# EAGLE library part QTE-040 (library con-samtec)
0,8mm HI-SPEED HEADER QTE Series Source: http://www.samtec.com/ftppub/pdf/QTE.PDF http://www.samtec.com/ftppub/cpdf/QTE-XXX-XX-X-D-XXX-FOOTPRINT.pdf
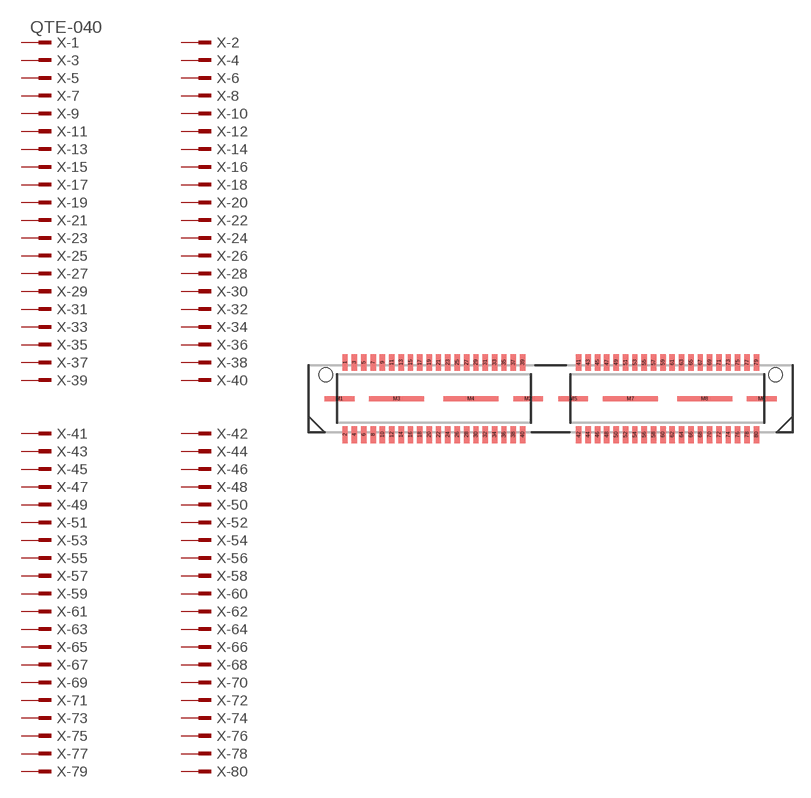
[diagram p1: symbol with the pads of QTE-040; footprint QTE-040]

Designator prefix X; gates -1=MPINV -2=MPIN -3=MPIN -4=MPIN -5=MPIN -6=MPIN -7=MPIN -8=MPIN -9=MPIN -10=MPIN -11=MPIN -12=MPIN -13=MPIN -14=MPIN -15=MPIN -16=MPIN -17=MPIN -18=MPIN -19=MPIN -20=MPIN -21=MPIN -22=MPIN -23=MPIN -24=MPIN -25=MPIN -26=MPIN -27=MPIN -28=MPIN -29=MPIN -30=MPIN -31=MPIN -32=MPIN -33=MPIN -34=MPIN -35=MPIN -36=MPIN -37=MPIN -38=MPIN -39=MPIN -40=MPIN -41=MPIN -42=MPIN -43=MPIN -44=MPIN -45=MPIN -46=MPIN -47=MPIN -48=MPIN -49=MPIN -50=MPIN -51=MPIN -52=MPIN -53=MPIN -54=MPIN -55=MPIN -56=MPIN -57=MPIN -58=MPIN -59=MPIN -60=MPIN -61=MPIN -62=MPIN -63=MPIN -64=MPIN -65=MPIN -66=MPIN -67=MPIN -68=MPIN -69=MPIN -70=MPIN -71=MPIN -72=MPIN -73=MPIN -74=MPIN -75=MPIN -76=MPIN -77=MPIN -78=MPIN -79=MPIN -80=MPIN

## QTE-040  [QTE-040]
1  -1:1  pas
2  -2:1  pas
3  -3:1  pas
4  -4:1  pas
5  -5:1  pas
6  -6:1  pas
7  -7:1  pas
8  -8:1  pas
9  -9:1  pas
10  -10:1  pas
11  -11:1  pas
12  -12:1  pas
13  -13:1  pas
14  -14:1  pas
15  -15:1  pas
16  -16:1  pas
17  -17:1  pas
18  -18:1  pas
19  -19:1  pas
20  -20:1  pas
21  -21:1  pas
22  -22:1  pas
23  -23:1  pas
24  -24:1  pas
25  -25:1  pas
26  -26:1  pas
27  -27:1  pas
28  -28:1  pas
29  -29:1  pas
30  -30:1  pas
31  -31:1  pas
32  -32:1  pas
33  -33:1  pas
34  -34:1  pas
35  -35:1  pas
36  -36:1  pas
37  -37:1  pas
38  -38:1  pas
39  -39:1  pas
40  -40:1  pas
41  -41:1  pas
42  -42:1  pas
43  -43:1  pas
44  -44:1  pas
45  -45:1  pas
46  -46:1  pas
47  -47:1  pas
48  -48:1  pas
49  -49:1  pas
50  -50:1  pas
51  -51:1  pas
52  -52:1  pas
53  -53:1  pas
54  -54:1  pas
55  -55:1  pas
56  -56:1  pas
57  -57:1  pas
58  -58:1  pas
59  -59:1  pas
60  -60:1  pas
61  -61:1  pas
62  -62:1  pas
63  -63:1  pas
64  -64:1  pas
65  -65:1  pas
66  -66:1  pas
67  -67:1  pas
68  -68:1  pas
69  -69:1  pas
70  -70:1  pas
71  -71:1  pas
72  -72:1  pas
73  -73:1  pas
74  -74:1  pas
75  -75:1  pas
76  -76:1  pas
77  -77:1  pas
78  -78:1  pas
79  -79:1  pas
80  -80:1  pas

## Footprint QTE-040 (pad centres in mm)
0,8mm HI-SPEED HEADER QTE Series Source: http://www.samtec.com/ftppub/pdf/QTE.PDF http://www.samtec.com/ftppub/cpdf/QTE-XXX-XX-X-D-XXX-FOOTPRINT.pdf
smd 0.46 x 1.45: 1 -17.595,3.09; 2 -17.595,-3.08; 3 -16.795,3.09; 4 -16.795,-3.08; 5 -15.995,3.09; 6 -15.995,-3.08; 7 -15.195,3.09; 8 -15.195,-3.08; 9 -14.395,3.09; 10 -14.395,-3.08; 11 -13.595,3.09; 12 -13.595,-3.08; 13 -12.795,3.09; 14 -12.795,-3.08; 15 -11.995,3.09; 16 -11.995,-3.08; 17 -11.195,3.09; 18 -11.195,-3.08; 19 -10.395,3.09; 20 -10.395,-3.08; 21 -9.595,3.09; 22 -9.595,-3.08; 23 -8.795,3.09; 24 -8.795,-3.08; 25 -7.995,3.09; 26 -7.995,-3.08; 27 -7.195,3.09; 28 -7.195,-3.08; 29 -6.395,3.09; 30 -6.395,-3.08; 31 -5.595,3.09; 32 -5.595,-3.08; 33 -4.795,3.09; 34 -4.795,-3.08; 35 -3.995,3.09; 36 -3.995,-3.08; 37 -3.195,3.09; 38 -3.195,-3.08; 39 -2.395,3.09; 40 -2.395,-3.08; 41 2.405,3.09; 42 2.405,-3.08; 43 3.205,3.09; 44 3.205,-3.08; 45 4.005,3.09; 46 4.005,-3.08; 47 4.805,3.09; 48 4.805,-3.08; 49 5.605,3.09; 50 5.605,-3.08; 51 6.405,3.09; 52 6.405,-3.08; 53 7.205,3.09; 54 7.205,-3.08; 55 8.005,3.09; 56 8.005,-3.08; 57 8.805,3.09; 58 8.805,-3.08; 59 9.605,3.09; 60 9.605,-3.08; 61 10.405,3.09; 62 10.405,-3.08; 63 11.205,3.09; 64 11.205,-3.08; 65 12.005,3.09; 66 12.005,-3.08; 67 12.805,3.09; 68 12.805,-3.08; 69 13.605,3.09; 70 13.605,-3.08; 71 14.405,3.09; 72 14.405,-3.08; 73 15.205,3.09; 74 15.205,-3.08; 75 16.005,3.09; 76 16.005,-3.08; 77 16.805,3.09; 78 16.805,-3.08; 79 17.605,3.09; 80 17.605,-3.08
smd 2.54 x 0.43: M1 -18.065,0; M2 -1.935,0; M5 1.935,0; M6 18.065,0
smd 4.7 x 0.43: M3 -13.175,0; M4 -6.825,0; M7 6.825,0; M8 13.175,0
hole 1.19 at -19.24,2.04
hole 1.19 at 19.24,2.04